# Altium schematic symbol library Inductor SWRB1204S-151MT.Schlib: 1 symbol
Pins are listed as number, name and electrical type; pins without a type are passive.

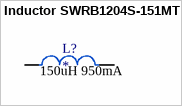
[diagram p0: symbol Inductor SWRB1204S-151MT]

## Inductor SWRB1204S-151MT
designator L?  value 150uH 950mA
/ POWER INDUCTORS 150UH ±20% 950MA SMD,12.5X12.5X5MM(MAX) ROHS; LCSC Part #: C169378; JLCPCB Part Type: Extended; ComponentLink1Description: LCSC - Sunlord SWRB1204S-151MT; ComponentLink1URL: https://lcsc.com/product-detail/Power-Inductors_Sunlord-SWRB1204S-151MT_C169401.html/?href=jlc-SMT
footprint 12.5x12.5 SMD Inductor
pins: 1, 2